# Altium footprint library MY.PcbLib: 177 footprints (part 9 of 12)
Each footprint in its own frame and in the unit in brackets; x right, y up, seen from the top. Pads: shape width x height; smd on the part's side, far side on the other; paste and mask are expansions set on the pad; w line width, h text height; cw(c..) or ccw(c..) is an arc to the next point about the centre after c.
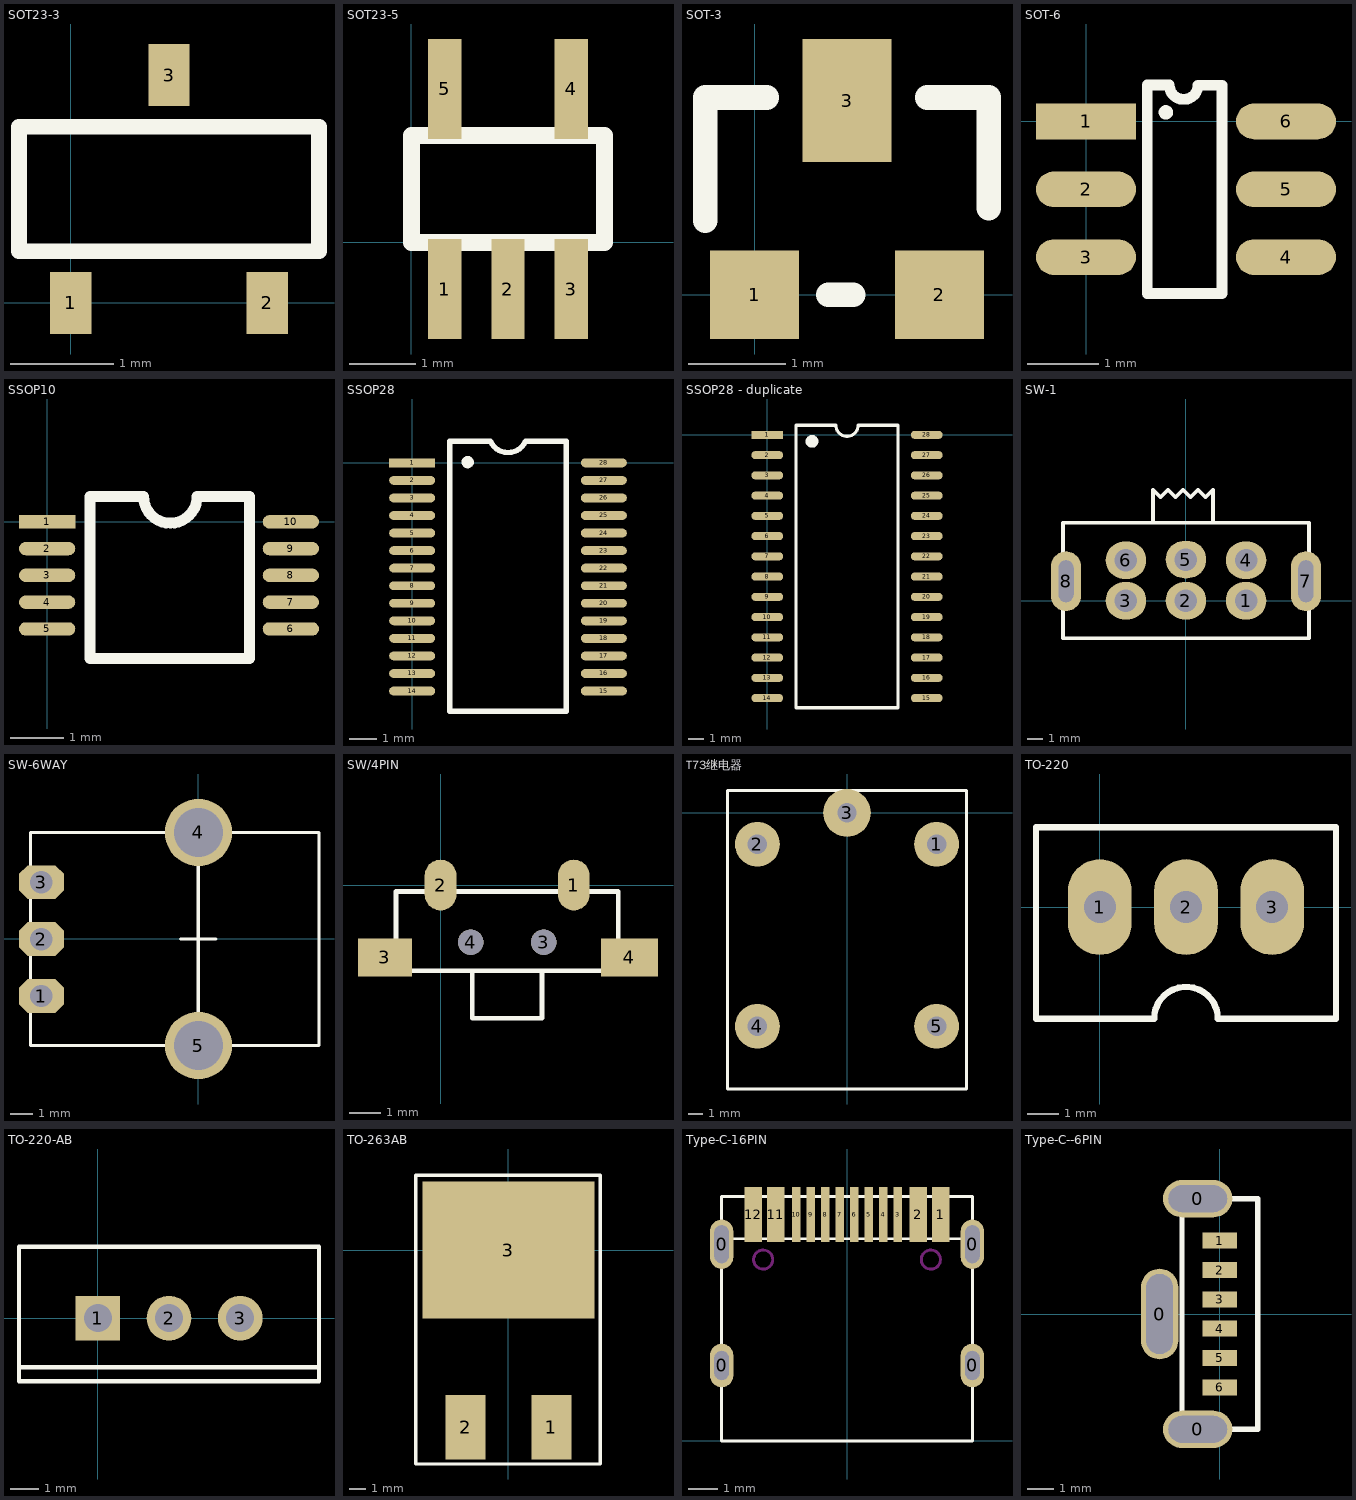
[diagram p8: the footprints below, top view; thin cyan lines are the x and y axes]

## SOT23-3 [mm]
pads (3):
  rect 0.4x0.6 smd: 1(0,0) 2(1.9,0) 3(0.95,2.2)
Top Overlay:
  lines w0.15: -0.5,0.5 2.4,0.5 2.4,1.7 -0.5,1.7 -0.5,0.5

## SOT23-5 [mm]
pads (5):
  rect 0.5x1.5 smd: 1(0.5,-0.7) 2(1.45,-0.7) 3(2.4,-0.7) 4(2.4,2.3) 5(0.5,2.3)
Top Overlay:
  lines w0.254: 0,0 0,1.6 2.9,1.6 2.9,0 0,0

## SOT-3 [mm]
pads (3):
  rect 0.914x0.914 smd: 1(0,0) 2(1.905,0)
  rect 0.914x1.27 smd: 3(0.953,2)
Top Overlay:
  lines w0.254: -0.508,0.762 -0.508,2.032 0.127,2.032 ; 0.762,0 1.016,0 ; 1.778,2.032 2.413,2.032 2.413,0.889

## SOT-6 [mm]
pads (6):
  rect 1.4x0.5 smd: 1(0,0)
  oval 1.4x0.5 smd: 2(0,-0.95) 3(0,-1.9) 4(2.8,-1.9) 5(2.8,-0.95) 6(2.8,0)
Top Overlay:
  circle w0.15: c1.118,0.127 r0.025
  lines w0.15: 1.167,0.508 ccw(c1.367,0.508) 1.567,0.508 1.905,0.508 1.905,-2.41 0.859,-2.41 0.859,0.51 1.167,0.51

## SSOP10 [mm]
pads (10):
  rect 1.05x0.25 smd: 1(0,0)
  oval 1.05x0.25 smd: 2(0,-0.5) 3(0,-1) 4(0,-1.5) 5(0,-2) 6(4.55,-2) 7(4.55,-1.5) 8(4.55,-1) 9(4.55,-0.5) 10(4.55,0)
Top Overlay:
  lines w0.203: 0.8,0.45 0.8,-2.55 3.775,-2.55 3.775,0.475 2.8,0.475 cw(c2.3,0.475) 2.3,-0.025 cw(c2.3,0.475) 1.8,0.475 0.8,0.475

## SSOP28 [mm]
pads (28):
  rect 1.7x0.33 smd: 1(0,0)
  oval 1.7x0.33 smd: 2(0,-0.65) 3(0,-1.3) 4(0,-1.95) 5(0,-2.6) 6(0,-3.25) 7(0,-3.9) 8(0,-4.55) 9(0,-5.2) 10(0,-5.85) 11(0,-6.5) 12(0,-7.15) 13(0,-7.8) 14(0,-8.45) 15(7.1,-8.45) 16(7.1,-7.8) 17(7.1,-7.15) 18(7.1,-6.5) 19(7.1,-5.85) 20(7.1,-5.2) 21(7.1,-4.55) 22(7.1,-3.9) 23(7.1,-3.25) 24(7.1,-2.6) 25(7.1,-1.95) 26(7.1,-1.3) 27(7.1,-0.65) 28(7.1,0)
Top Overlay:
  circle w0.3: c2.057,0.025 r0.076
  lines w0.2: 1.4,-9.2 5.7,-9.2 5.7,0.8 4.2,0.8 cw(c3.55,1.095) 2.9,0.8 1.4,0.8 1.4,-9.2

## SSOP28 - duplicate [mm]
pads (28):
  rect 2x0.5 smd: 1(0,0)
  oval 2x0.5 smd: 2(0,-1.27) 3(0,-2.54) 4(0,-3.81) 5(0,-5.08) 6(0,-6.35) 7(0,-7.62) 8(0,-8.89) 9(0,-10.16) 10(0,-11.43) 11(0,-12.7) 12(0,-13.97) 13(0,-15.24) 14(0,-16.51) 15(10,-16.51) 16(10,-15.24) 17(10,-13.97) 18(10,-12.7) 19(10,-11.43) 20(10,-10.16) 21(10,-8.89) 22(10,-7.62) 23(10,-6.35) 24(10,-5.08) 25(10,-3.81) 26(10,-2.54) 27(10,-1.27) 28(10,0)
Top Overlay:
  circle w0.4: c2.804,-0.406 r0.2
  lines w0.2: 1.8,0.61 1.8,-17.12 8.2,-17.12 8.2,0.61 ; 1.8,0.61 4.3,0.61 ccw(c5,0.61) 5.7,0.61 8.2,0.61

## SW-1 [mm]
pads (8):
  oval 2.7x2.5 hole 1.5: 1(4,0) 2(0,0) 3(-4,0) 4(4,2.7) 5(0,2.746) 6(-4,2.7)
  oval 2x4 hole 1 slot 2.8 at 90 deg: 7(8,1.3) 8(-8,1.3)
Top Overlay:
  lines w0.254: -2.2,5.2 -2.2,7.4 -2.1,7.3 -1.7,6.9 -1.2,7.4 -0.7,6.9 -0.2,7.4 0.3,6.9 0.8,7.4 1.3,6.9 1.8,7.4 1.8,5.2 ; -8.2,-2.5 4,-2.5 8.2,-2.5 8.2,5.2 4,5.2 -8.2,5.2 -8.2,0 -8.2,-2.5

## SW-6WAY [mm]
pads (5):
  oct 2x1.5 hole 1 mask+0.003: 1(-7,-2.543) 2(-7,-0.003) 3(-7,2.537)
  round 3 hole 2.2 mask+0.003: 4(0,4.75) 5(0,-4.75)
Top Overlay:
  lines w0.15: -0.783,0 0.766,0 ; 0,-4.75 0,4.75 ; -7.489,-4.75 5.376,-4.75 5.376,4.75 -7.489,4.75 -7.489,-4.75

## SW/4PIN [mm]
pads (6):
  oval 1x1.6 smd: 1(4.2,0) 2(0,0)
  rect 1.7x1.2 smd: 3(-1.75,-2.28)
  round 0.8 hole 0.8: 3(3.25,-1.8) 4(0.95,-1.8)
  rect 1.8x1.2 smd: 4(5.95,-2.28)
Top Overlay:
  lines w0.15: 1,-2.7 1,-4.2 3.2,-4.2 3.2,-2.7 ; -1.4,-2.7 -1.4,-0.2 5.6,-0.2 5.6,-2.7 -1.4,-2.7

## T73继电器 [mm]
pads (5):
  round 3 hole 1.3: 1(6,-2.1) 2(-6,-2.1) 4(-6,-14.3) 5(6,-14.3)
  round 3.2 hole 1.3: 3(0,0)
Top Overlay:
  lines w0.2: -8,-18.5 8,-18.5 8,1.5 -8,1.5 -8,-18.5

## TO-220 [mm]
pads (3):
  oval 2x3 hole 1: 1(0,0) 2(2.7,0) 3(5.4,0)
Top Overlay:
  lines w0.2: -2,-3.5 1.7,-3.5 cw(c2.7,-3.5) 3.7,-3.5 7.4,-3.5 7.4,2.5 -2,2.5 -2,-3.5

## TO-220-AB [mm]
pads (3):
  rect 1.6x1.6 hole 1: 1(0,0)
  round 1.6 hole 1: 2(2.54,0) 3(5.08,0)
Top Overlay:
  lines w0.15: -2.81,-1.75 7.89,-1.75 ; -2.81,-2.25 7.89,-2.25 7.89,2.55 -2.81,2.55 -2.81,-2.25

## TO-263AB [mm]
pads (3):
  rect 2.5x4 smd: 1(2.67,-11) 2(-2.67,-11)
  rect 10.7x8.5 smd: 3(0,0)
Top Overlay:
  lines w0.2: -5.762,-13.288 5.701,-13.288 5.701,4.645 -5.762,4.645 -5.762,-13.288

## Type-C-16PIN [mm]
pads (16):
  oval 0.8x1.5 hole 0.5 slot 1 at 90 deg: 0(-4.32,2.6) 0(4.32,2.6)
  oval 0.8x1.7 hole 0.5 slot 1.3 at 90 deg: 0(-4.32,6.78) 0(4.32,6.78)
  rect 0.6x1.9 smd: 1(3.225,7.8) 2(2.45,7.8) 11(-2.45,7.8) 12(-3.225,7.8)
  rect 0.3x1.9 smd: 3(1.75,7.8) 4(1.25,7.8) 5(0.75,7.8) 6(0.25,7.8) 7(-0.25,7.8) 8(-0.75,7.8) 9(-1.25,7.8) 10(-1.75,7.8)
Top Overlay:
  lines w0.1: -4.32,6.97 4.32,6.97 ; -4.32,0 4.32,0 4.32,8.42 -4.32,8.42 -4.32,0
Keep-Out Layer:
  circle w0.1: c2.89,6.25 r0.33
  circle w0.1: c-2.89,6.25 r0.33

## Type-C--6PIN [mm]
pads (9):
  oval 1.4x3.4 hole 1 slot 3 at 90 deg: 0(-2.26,0)
  oval 2.6x1.4 hole 1 slot 2.2 at 0 deg: 0(-0.83,-4.325) 0(-0.83,4.325)
  rect 1.3x0.6 smd: 1(0,2.75) 2(0,1.65) 3(0,0.55) 4(0,-0.55) 5(0,-1.65) 6(0,-2.75)
Top Overlay:
  lines w0.2: -1.42,-4.325 1.42,-4.325 1.42,4.325 -1.42,4.325 -1.42,-4.325